# Altium integrated library OVLAW4CB7.IntLib: 1 symbol
Pins are listed as number, name and electrical type; pins without a type are passive.

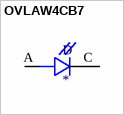
[diagram p0: symbol OVLAW4CB7]

## OVLAW4CB7
designator D
White LED Indication - Discrete 3.2V Radial; MF: TT Electronics/Optek; MP: OVLAW4CB7; Value: *; SnapEDA_Link: https://www.snapeda.com/parts/OVLAW4CB7/TT%20Electronics/Optek%20Technology/view-part/328075/?ref=snap; Availability: Unavailable; Package: Radial Optek; Price: None
footprint LEDRD254W50D305H520P
pins: A, C